# Altium schematic symbol library st-transistor.SchLib: 2 symbols
Pins are listed as number, name and electrical type; pins without a type are passive.

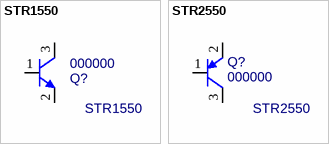
[diagram p0: symbols STR1550 to STR2550]

## STR1550
designator Q?, comment 000000  value STR1550
NPN Transistor, 500V, 0.5A; PN: 000000; Package: SOT-23; ExtraInfo: *; MF PN: STR1550; Digi-Key PN: 497-13847-1-ND; Price: 0.12647
footprint SOT-23-HV (SOT23, 3-Leads, Body 3.0x2.8mm (max), Pitch 0.95mm, IPC High Density)
pins: 1 B, 2 E, 3 C

## STR2550
designator Q?, comment 000000  value STR2550
PNP Transistor, 500V, 0.5A; PN: 000000; Package: SOT23; ExtraInfo: *; MF PN: STR2550; Digi-Key PN: 497-13848-1-ND; Price: 0.12647
signal-integrity model PNP
footprint SOT-23-HV (SOT23, 3-Leads, Body 3.0x2.8mm (max), Pitch 0.95mm, IPC High Density)
pins: 1 B, 2 E, 3 C